# Altium footprint library PVLoad_PcbLib.PcbLib: 13 footprints
Each footprint in its own frame and in the unit in brackets; x right, y up, seen from the top. Pads: shape width x height; smd on the part's side, far side on the other; paste and mask are expansions set on the pad; w line width, h text height; cw(c..) or ccw(c..) is an arc to the next point about the centre after c.
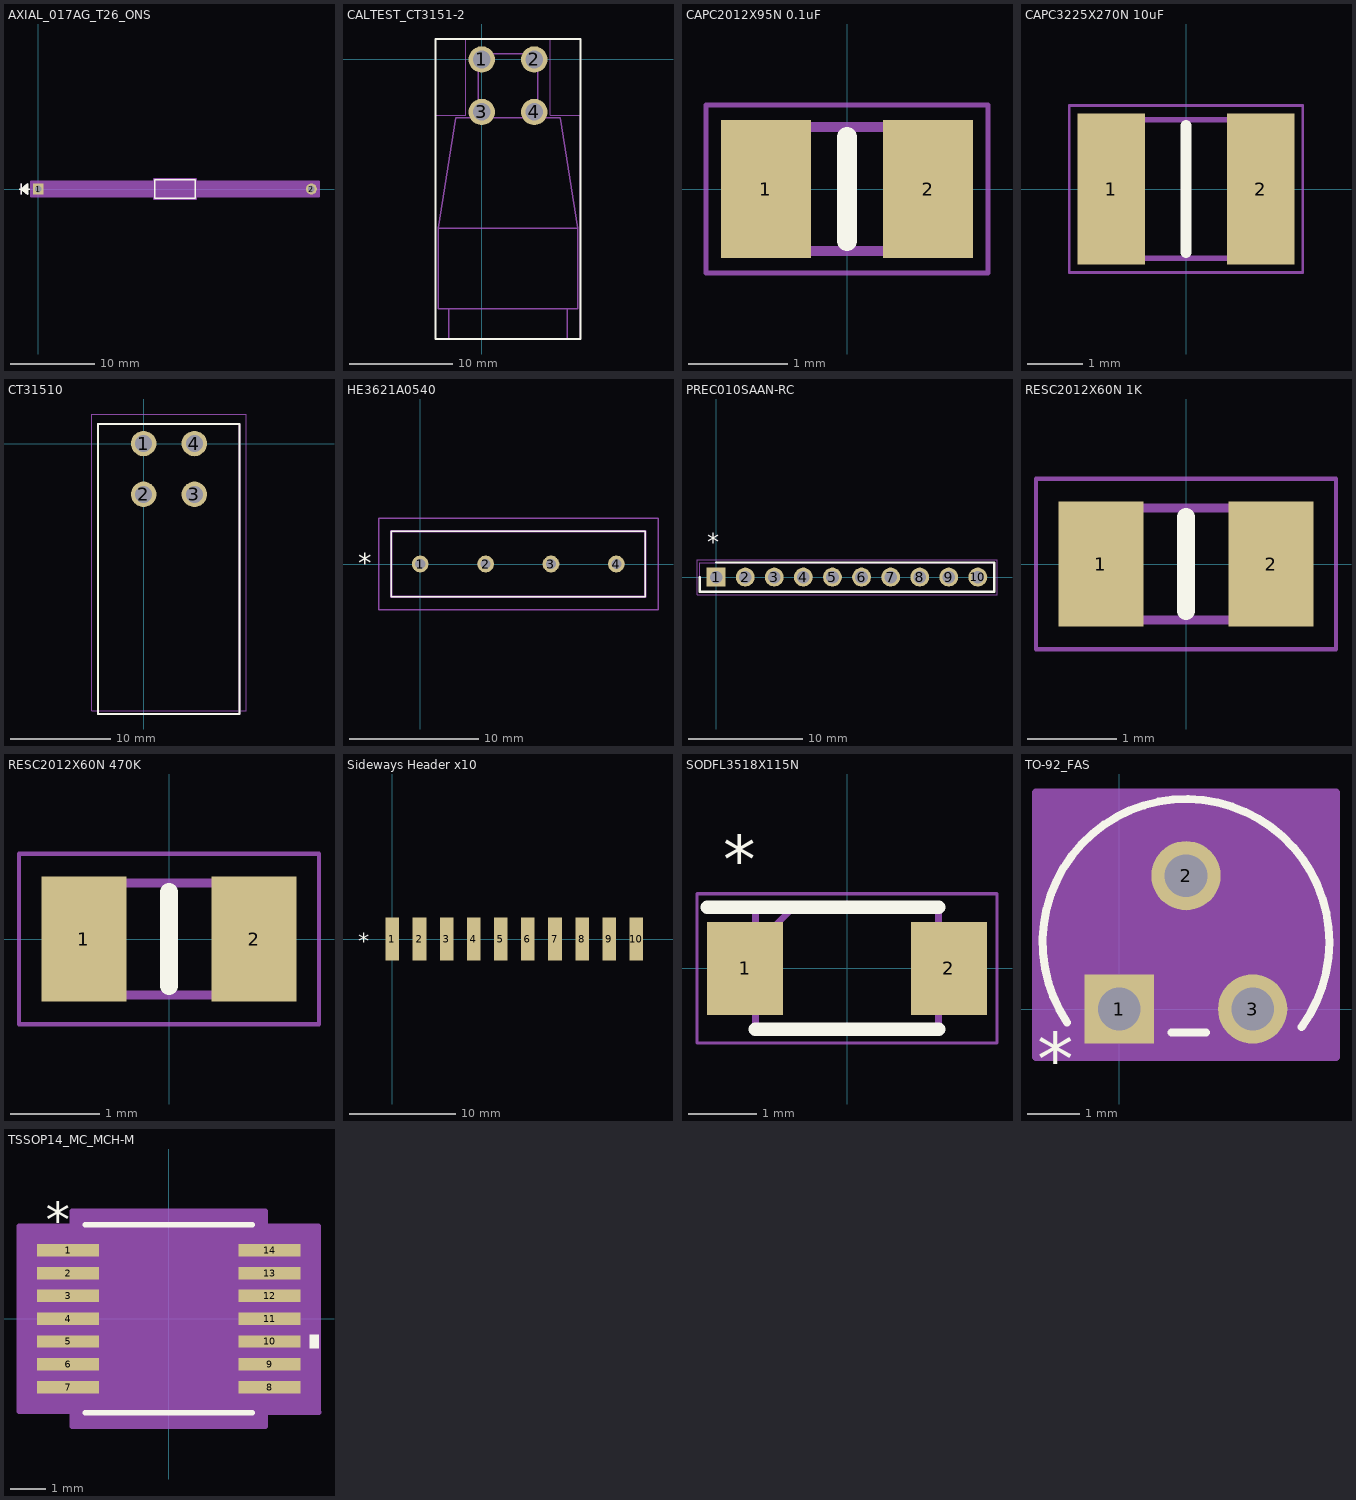
[diagram p0: the footprints below, top view; thin cyan lines are the x and y axes]

## AXIAL_017AG_T26_ONS [mil]
pads (2):
  rect 51x51 hole 31 paste-99999 mask+0: 1(0,0)
  round 51 hole 31 paste-99999 mask+0: 2(1282,0)
Top Overlay:
  lines w6: -90.5,0 -40.5,0 ; -80.5,-25 -80.5,25 ; -50.5,-20 -80.5,0 ; -50.5,-15 -80.5,0 ; -50.5,-10 -80.5,0 ; -50.5,-5 -80.5,0 ; -50.5,5 -80.5,0 ; -50.5,10 -80.5,0 ; -50.5,15 -80.5,0 ; -50.5,20 -80.5,0 ; -80.5,0 -50.5,-25 -50.5,25 -80.5,0 ; 546,-42.5 546,42.5 736,42.5 736,-42.5 546,-42.5
Mechanical 13:
  lines w1: -90.5,0 -40.5,0 ; -80.5,-25 -80.5,25 ; -50.5,-20 -80.5,0 ; -50.5,-15 -80.5,0 ; -50.5,-10 -80.5,0 ; -50.5,-5 -80.5,0 ; -50.5,5 -80.5,0 ; -50.5,10 -80.5,0 ; -50.5,15 -80.5,0 ; -50.5,20 -80.5,0 ; 0,0 551,0 ; 731,0 1282,0 ; -80.5,0 -50.5,-25 -50.5,25 -80.5,0 ; 551,-37.5 551,37.5 731,37.5 731,-37.5 551,-37.5
Mechanical 15:
  region: 541,-35.5 -35.5,-35.5 -35.5,35.5 541,35.5 541,47.5 741,47.5 741,35.5 1317.5,35.5 1317.5,-35.5 741,-35.5 741,-47.5 541,-47.5
  lines w6: -35.5,-35.5 541,-35.5 541,-47.5 741,-47.5 741,-35.5 1317.5,-35.5 1317.5,35.5 741,35.5 741,47.5 541,47.5 541,35.5 -35.5,35.5 -35.5,-35.5
3D body "AXIAL_017AG_T26_ONS.step": height 75.04, standoff -100, extent -10.51,-37.33 1292.48,37.33

## CALTEST_CT3151-2 [mm]
height 19.25
pads (4):
  round 2.55 hole 1.7: 1(0,0) 2(5.08,0) 3(0,-5.08) 4(5.08,-5.08)
Top Overlay:
  lines w0.2: -4.46,-27.051 -4.46,-5.39 -4.46,1.981 9.54,1.981 9.54,-27.051 -4.46,-27.051
Mechanical 13:
  lines w0.127: -4.21,-16.34 9.29,-16.34 ; -4.21,-16.34 -4.21,-24.14 -3.21,-24.14 ; -4.21,-16.34 -2.51,-5.64 7.59,-5.64 9.29,-16.34 ; -3.21,-24.14 -3.21,-27.051 6.051,-27.051 8.29,-27.051 8.29,-24.14 ; -3.21,-24.14 8.29,-24.14 ; 8.29,-24.14 9.29,-24.14 9.29,-16.34 ; -0.36,-5.64 5.44,-5.64 5.44,0.56 -0.36,0.56 -0.36,-5.64
Mechanical 15:
  lines w0.05: -4.46,-27.051 -4.46,-5.39 -1.53,-5.39 -1.53,1.981 6.61,1.981 6.61,-5.39 9.54,-5.39 9.54,-27.051 5.369,-27.051 -1.631,-27.051 -4.46,-27.051
3D body "step_temp.STEP": height 19.44, standoff -2.95, extent -4.21,-27.058 9.29,0.642

## CAPC2012X95N 0.1uF [mm]
pads (2):
  rect 0.91x1.39 smd: 1(-0.82,0) 2(0.82,0)
Top Overlay:
  lines w0.2: 0,-0.525 0,0.525
Mechanical 13:
  lines w0.1: -1,-0.625 -1,0.625 1,0.625 1,-0.625 -1,-0.625
Mechanical 15:
  lines w0.05: -1.425,-0.85 -1.425,0.85 1.425,0.85 1.425,-0.85 -1.425,-0.85
3D body "CL21B104KBCNNNC.stp": height 0.95, standoff 0, extent -1,-0.625 1,0.625

## CAPC3225X270N 10uF [mm]
pads (2):
  rect 1.22x2.72 smd: 1(-1.35,0) 2(1.35,0)
Top Overlay:
  lines w0.2: 0,-1.15 0,1.15
Mechanical 13:
  lines w0.1: -1.6,-1.25 1.6,-1.25 1.6,1.25 -1.6,1.25 -1.6,-1.25
Mechanical 15:
  lines w0.05: -2.11,-1.51 2.11,-1.51 2.11,1.51 -2.11,1.51 -2.11,-1.51
3D body "CL32B106KBJNNNE.stp": height 2.7, standoff 0, extent -1.6,-1.25 1.6,1.25

## CT31510 [mm]
pads (4):
  round 2.55 hole 1.7: 1(0,0) 2(0,-5.08) 3(5.08,-5.08) 4(5.08,0)
Top Overlay:
  lines w0.2: -4.545,-27.058 9.614,-27.058 9.614,1.981 -4.545,1.981 -4.545,-27.058
Mechanical 15:
  lines w0.2: -4.545,-27.058 9.614,-27.058 9.614,1.981 -4.545,1.981 -4.545,-27.058
Mechanical 20:
  lines w0.1: -5.21,-26.74 10.29,-26.74 10.29,2.96 -5.21,2.96 -5.21,-26.74
3D body "CT3151-0.stp": height 19.53, standoff -2.85, extent -4.21,-27.058 9.29,0.642

## HE3621A0540 [mm]
pads (4):
  round 1.3 hole 0.8: 1(0,0) 2(5.08,0) 3(10.16,0) 4(15.24,0)
Top Overlay:
  lines w0.1: -2.23,-2.54 17.47,-2.54 17.47,2.54 -2.23,2.54 -2.23,-2.54
  text "*" at -4.826,-0.66 h1.52
Mechanical 15:
  lines w0.2: -2.23,-2.54 17.47,-2.54 17.47,2.54 -2.23,2.54 -2.23,-2.54
Mechanical 20:
  lines w0.1: -3.23,-3.54 18.47,-3.54 18.47,3.54 -3.23,3.54 -3.23,-3.54
3D body "HE3621A0540.stp": height 8.49, standoff -3.1, extent -2.23,-3.126 17.47,2.956

## PREC010SAAN-RC [mm]
pads (10):
  rect 1.65x1.65 / inner round 1.65 / far side rect 1.65x1.65 hole 1.1: 1(0,0)
  round 1.65 hole 1.1: 2(2.54,0) 3(5.08,0) 4(7.62,0) 5(10.16,0) 6(12.7,0) 7(15.24,0) 8(17.78,0) 9(20.32,0) 10(22.86,0)
Top Overlay:
  lines w0.2: -1.42,0 -1.42,-1.27 24.28,-1.27 24.28,1.27 0,1.27
  text "*" at -0.762,2.286 h1.52
Mechanical 15:
  lines w0.1: -1.42,-1.27 24.28,-1.27 24.28,1.27 -1.42,1.27 -1.42,-1.27
Mechanical 20:
  lines w0.05: -1.67,-1.52 24.53,-1.52 24.53,1.52 -1.67,1.52 -1.67,-1.52
3D body "PREC010SAAN-RC.stp": height 8.34, standoff -3.05, extent -1.27,-1.27 24.13,1.27

## RESC2012X60N 1K [mm]
pads (2):
  rect 0.95x1.4 smd: 1(-0.95,0) 2(0.95,0)
Top Overlay:
  lines w0.2: 0,-0.525 0,0.525
Mechanical 13:
  lines w0.1: -1,-0.625 1,-0.625 1,0.625 -1,0.625 -1,-0.625
Mechanical 15:
  lines w0.05: -1.675,-0.95 1.675,-0.95 1.675,0.95 -1.675,0.95 -1.675,-0.95
3D body "RC0805FR-071KL.stp": height 0.6, standoff 0, extent -1,-0.625 1,0.625

## RESC2012X60N 470K [mm]
pads (2):
  rect 0.95x1.4 smd: 1(-0.95,0) 2(0.95,0)
Top Overlay:
  lines w0.2: 0,-0.525 0,0.525
Mechanical 13:
  lines w0.1: -1,-0.625 1,-0.625 1,0.625 -1,0.625 -1,-0.625
Mechanical 15:
  lines w0.05: -1.675,-0.95 1.675,-0.95 1.675,0.95 -1.675,0.95 -1.675,-0.95
3D body "RC0805FR-071KL.stp": height 0.6, standoff 0, extent -1,-0.625 1,0.625

## Sideways Header x10 [mil]
pads (10):
  rect 50x160 smd paste-99999 mask+0: 1(0,0) 2(100,0) 3(200,0) 4(300,0) 5(400,0) 6(500,0) 7(600,0) 8(700,0) 9(800,0) 10(900,0)
Top Overlay:
  text "*" at -127,-40 h60
3D body "PREC010SAAN-RC.stp": height 50, standoff -50, extent -50,-408.35 950,40.08

## SODFL3518X115N [mm]
pads (2):
  rect 1.12x1.37 smd: 1(-1.5,0) 2(1.5,0)
Top Overlay:
  lines w0.2: -2.06,0.9 1.35,0.9 ; -1.35,-0.9 1.35,-0.9
  text "*" at -1.82,1.264 h0.7
Mechanical 13:
  lines w0.1: -1.35,0.34 -0.79,0.9 ; -1.35,-0.9 1.35,-0.9 1.35,0.9 -1.35,0.9 -1.35,-0.9
Mechanical 15:
  lines w0.05: -2.21,-1.1 2.21,-1.1 2.21,1.1 -2.21,1.1 -2.21,-1.1
3D body "1N5819HW1-7-F.stp": height 1.15, standoff 0, extent -1.75,-0.9 1.75,0.9

## TO-92_FAS [mil]
pads (3):
  rect 52x52 hole 32 paste-99999 mask+0: 1(0,0)
  round 52 hole 32 paste-99999 mask+0: 2(50,100) 3(100,0)
Top Overlay:
  lines w6: -39.1,-10.15 cw(c50,50) 157.5,50 cw(c50,50) 136.65,-13.63 ; 39.1,-17.5 65.03,-17.5
  text "*" at -61.71,-57.16 h40
Mechanical 13:
  circle w1: c-42.5,0 r5
  lines w1: -31.24,-12.5 cw(c50,50) 131.24,-12.5 -31.24,-12.5
  lines w6: -10,0 10,0 ; 0,-10 0,10
Mechanical 15:
  region: 162.5,-36 -62.5,-36 -62.5,162.5 162.5,162.5
  lines w6: -62.5,-36 -62.5,162.5 162.5,162.5 162.5,-36 -62.5,-36
3D body "TO-92_FAS.step": height 297, standoff -100.99, extent -52.39,-10.98 152.39,152.04

## TSSOP14_MC_MCH-M [mil]
pads (14):
  rect 70x14 smd paste+0 mask+0: 1(-113,76.77) 2(-113,51.18) 3(-113,25.59) 4(-113,0) 5(-113,-25.59) 6(-113,-51.18) 7(-113,-76.77) 8(113,-76.77) 9(113,-51.18) 10(113,-25.59) 11(113,0) 12(113,25.59) 13(113,51.18) 14(113,76.77)
Top Overlay:
  region: 158,-18.09 168,-18.09 168,-33.09 158,-33.09
  lines w6: -93.5,-105.5 93.5,-105.5 ; -93.5,105.5 93.5,105.5
  text "*" at -137.95,91 h40
Mechanical 13:
  lines w1: -12,100.5 ccw(c0,100.5) 12,100.5 ; -126,-82.77 -126,-70.77 -88.5,-70.77 -88.5,-82.77 -126,-82.77 ; -126,-57.18 -126,-45.18 -88.5,-45.18 -88.5,-57.18 -126,-57.18 ; -126,-31.59 -126,-19.59 -88.5,-19.59 -88.5,-31.59 -126,-31.59 ; -126,-6 -126,6 -88.5,6 -88.5,-6 -126,-6 ; -126,19.59 -126,31.59 -88.5,31.59 -88.5,19.59 -126,19.59 ; -126,45.18 -126,57.18 -88.5,57.18 -88.5,45.18 -126,45.18 ; -126,70.77 -126,82.77 -88.5,82.77 -88.5,70.77 -126,70.77 ; -88.5,-100.5 88.5,-100.5 88.5,100.5 -88.5,100.5 -88.5,-100.5 ; 88.5,-82.77 88.5,-70.77 126,-70.77 126,-82.77 88.5,-82.77 ; 88.5,-57.18 88.5,-45.18 126,-45.18 126,-57.18 88.5,-57.18 ; 88.5,-31.59 88.5,-19.59 126,-19.59 126,-31.59 88.5,-31.59 ; 88.5,-6 88.5,6 126,6 126,-6 88.5,-6 ; 88.5,19.59 88.5,31.59 126,31.59 126,19.59 88.5,19.59 ; 88.5,45.18 88.5,57.18 126,57.18 126,45.18 88.5,45.18 ; 88.5,70.77 88.5,82.77 126,82.77 126,70.77 88.5,70.77
Mechanical 15:
  region: -108.5,-103.77 -168,-103.77 -168,103.77 -108.5,103.77 -108.5,120.5 108.5,120.5 108.5,103.77 168,103.77 168,-103.77 108.5,-103.77 108.5,-120.5 -108.5,-120.5
  lines w6: 108.5,-103.77 108.5,-120.5 -108.5,-120.5 -108.5,-103.77 -168,-103.77 -168,103.77 -108.5,103.77 -108.5,120.5 108.5,120.5 108.5,103.77 168,103.77 168,-103.77 ; 109,-105 168.5,-105
3D body "TSSOP14_MC_MCH.step": height 47.09, standoff 0, extent -125.98,-100.51 125.98,100.51